# EAGLE library part IMU-LSM6DSOXTR (library custom)
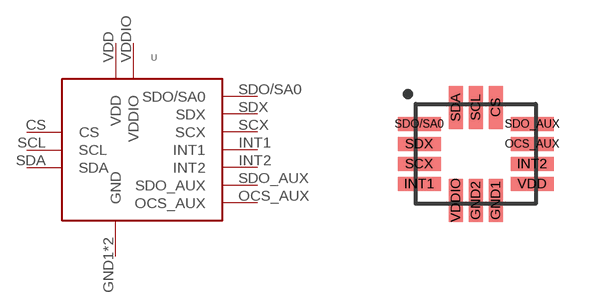
[diagram p0: symbol with the pads of IMU-LSM6DS0; footprint IMU-LSM6DS0]

Designator prefix U

## IMU-LSM6DSOXTR-LSM6DSOXTR (CREATOR: Christian Remmelberger; DIST: Digikey; DISTPN: 497-18367-1-ND)  [IMU-LSM6DS0]
CS  CS
GND1  GND
GND2  GND
INT1  INT1
INT2  INT2
OCS_AUX  OCS_AUX
SCL  SCL
SCX  SCX
SDA  SDA
SDO/SA0  SDO/SA0
SDO_AUX  SDO_AUX
SDX  SDX
VDD  VDD
VDDIO  VDDIO

## Footprint IMU-LSM6DS0 (pad centres in mm)
smd 0.35 x 1.075: CS 0.5,1.163; GND1 0.5,-1.163; GND2 0,-1.163; SCL 0,1.163; SDA -0.5,1.163; VDDIO -0.5,-1.163
smd 1.075 x 0.35: INT1 -1.413,-0.75; INT2 1.413,-0.25; OCS_AUX 1.413,0.25; SCX -1.413,-0.25; SDO/SA0 -1.413,0.75; SDO_AUX 1.413,0.75; SDX -1.413,0.25; VDD 1.413,-0.75